# Altium footprint library LCD1602.PcbLib: 3 footprints
Each footprint in its own frame and in the unit in brackets; x right, y up, seen from the top. Pads: shape width x height; smd on the part's side, far side on the other; paste and mask are expansions set on the pad; w line width, h text height; cw(c..) or ccw(c..) is an arc to the next point about the centre after c.
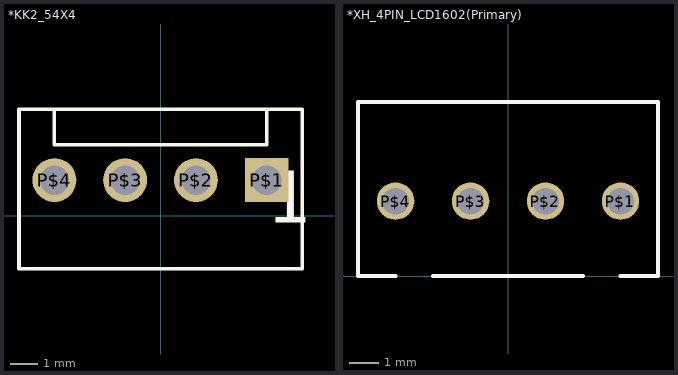
[diagram p0: the footprints below, top view; thin cyan lines are the x and y axes]

## *KK2_54X4 [mm]
pads (4):
  rect 1.575x1.575 hole 1.05: P$1(3.81,1.27)
  round 1.575 hole 1.05: P$2(1.27,1.27) P$3(-1.27,1.27) P$4(-3.81,1.27)
Top Overlay:
  lines w0.127: -3.81,3.81 -3.81,2.54 3.81,2.54 3.81,3.81 ; -3.81,3.81 -5.08,3.81 -5.08,-1.905 5.08,-1.905 5.08,3.81 3.81,3.81 ; -3.81,3.81 3.81,3.81
  text "1" at 3.81,-0.25 h1.88

## *XH_4PIN_LCD1602(Primary) [mm]
pads (4):
  round 1.27 hole 0.9: P$1(3.81,2.54) P$2(1.27,2.54) P$3(-1.27,2.54) P$4(-3.81,2.54)
Top Overlay:
  lines w0.127: -3.81,0 -5.08,0 -5.08,5.9 5.08,5.9 5.08,0 3.81,0 ; -2.54,0 2.54,0

## PCBComponent_1 [mil]